# Altium schematic symbol library MOSFET.SchLib: 1 symbol
Pins are listed as number, name and electrical type; pins without a type are passive.

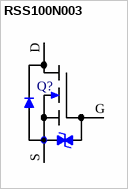
[diagram p0: symbol RSS100N003]

## RSS100N003
designator Q?  (value not drawn)
footprint SOP8_M (SOIC, 8-Leads, Body 4.9x3.9mm, Pitch 1.27mm, IPC Low Density); pin to pad D>6 DD>7 DDD>8 DDDD>5 G>4 S>3 SS>1 SSS>2
footprint SOP8_L (SOIC, 8-Leads, Body 4.9x3.9mm, Pitch 1.27mm, IPC High Density); pin to pad D>6 DD>7 DDD>8 DDDD>5 G>4 S>3 SS>1 SSS>2
footprint SOP8_N (SOIC, 8-Leads, Body 4.9x3.9mm, Pitch 1.27mm, IPC Medium Density); pin to pad D>6 DD>7 DDD>8 DDDD>5 G>4 S>3 SS>1 SSS>2
pins: D, DD, DDD, DDDD, G, S, SS, SSS